# Altium footprint library LIB.PcbLib: 13 footprints
Each footprint in its own frame and in the unit in brackets; x right, y up, seen from the top. Pads: shape width x height; smd on the part's side, far side on the other; paste and mask are expansions set on the pad; w line width, h text height; cw(c..) or ccw(c..) is an arc to the next point about the centre after c.
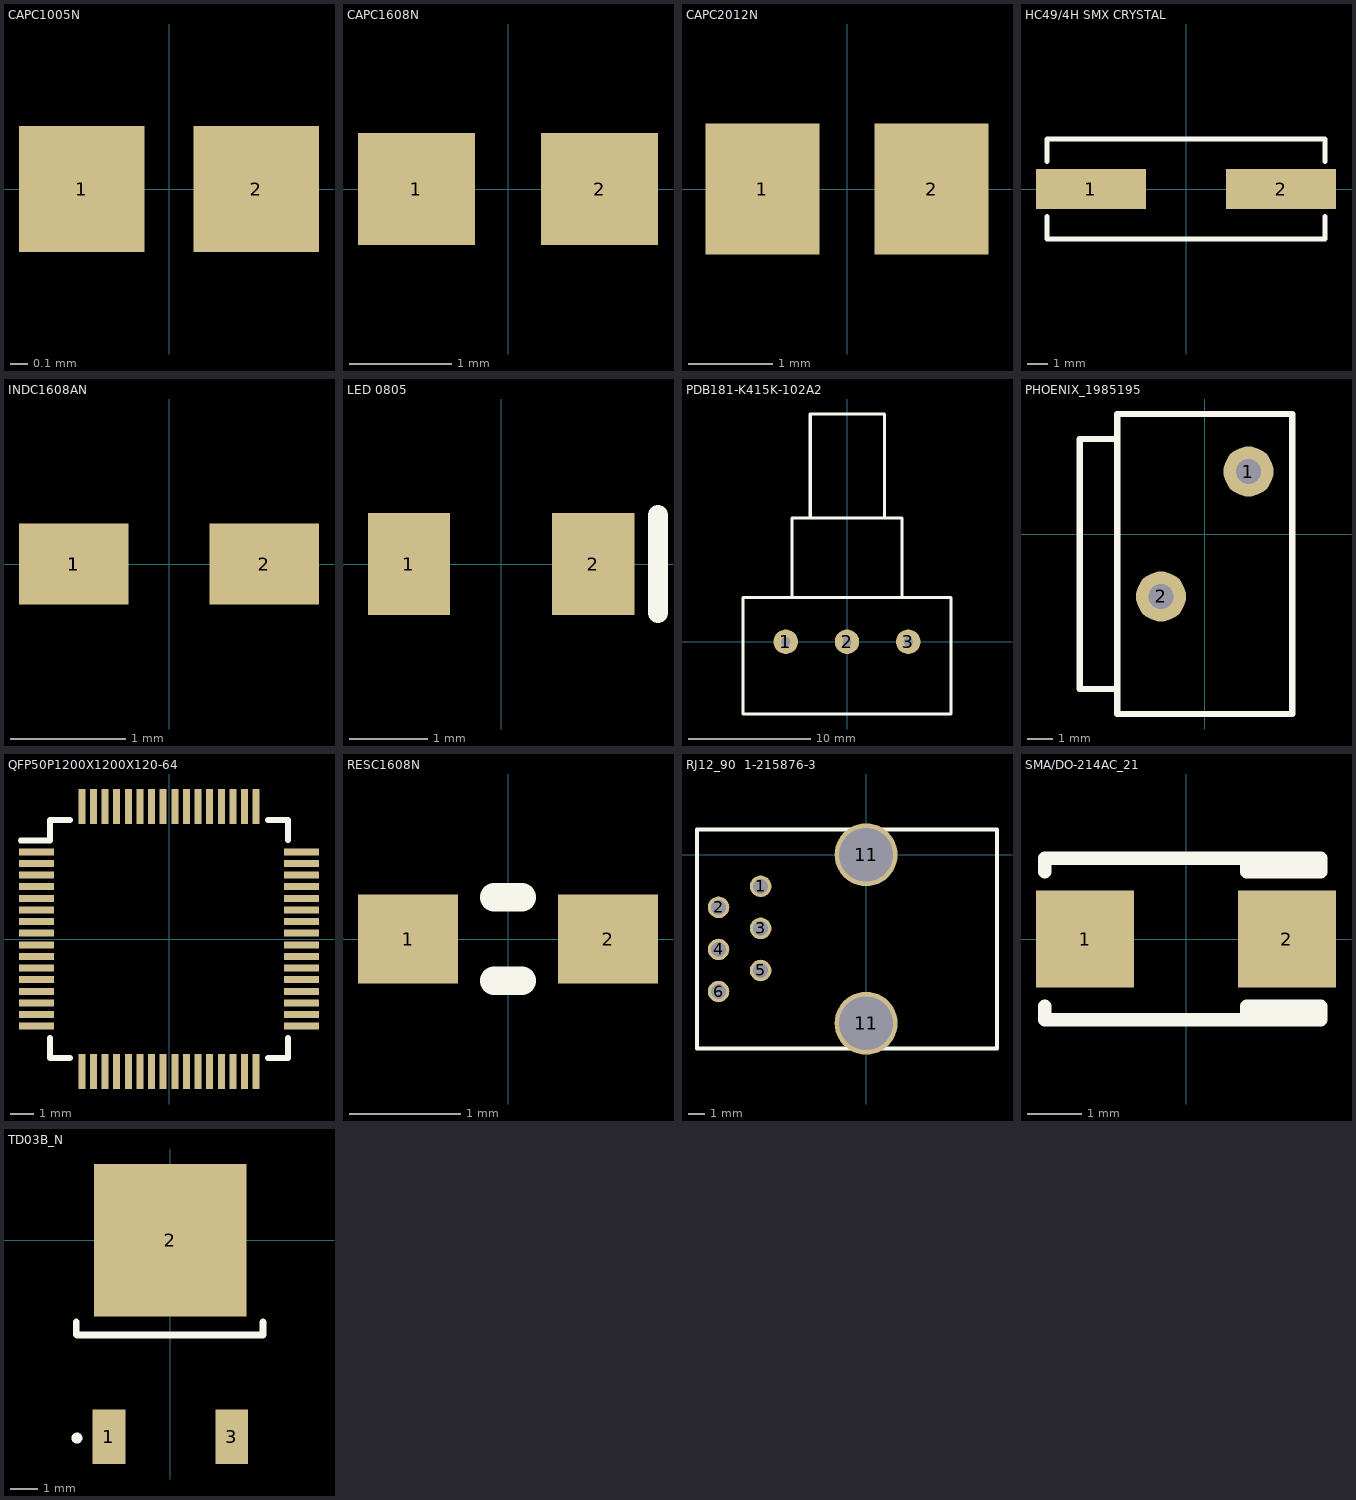
[diagram p0: the footprints below, top view; thin cyan lines are the x and y axes]

## CAPC1005N [mm]
pads (2):
  rect 0.72x0.72 smd: 1(-0.5,0) 2(0.5,0)

## CAPC1608N [mm]
pads (2):
  rect 1.15x1.1 smd: 1(-0.9,0) 2(0.9,0)

## CAPC2012N [mm]
pads (2):
  rect 1.35x1.55 smd: 1(-1,0) 2(1,0)

## HC49/4H SMX CRYSTAL [mm]
pads (2):
  rect 5.5x2 smd: 1(-4.75,0) 2(4.75,0)
Top Overlay:
  lines w0.254: -6.95,-1.375 -6.95,-2.5 6.95,-2.5 6.95,-1.375 ; -6.95,1.375 -6.95,2.5 6.95,2.5 6.95,1.375

## INDC1608AN [mm]
pads (3):
  rect 0.95x0.7 smd: 1(-0.825,0) 1(-0.825,0) 2(0.825,0)

## LED 0805 [mm]
pads (2):
  rect 1.05x1.3 smd: 1(-1.175,0) 2(1.175,0)
Top Overlay:
  lines w0.254: 2,-0.625 2,0.625

## PDB181-K415K-102A2 [mm]
pads (3):
  round 2 hole 0.762: 1(-5,0) 2(0,0) 3(5,0)
Top Overlay:
  lines w0.254: -4.5,3.6 -4.5,10.1 4.5,10.1 4.5,3.6 ; -3,10.1 -3,18.6 3.05,18.6 ; 3.075,10.1 3.075,18.6 ; -8.5,-5.9 -8.5,3.6 8.5,3.6 8.5,-5.9 -8.5,-5.9

## PHOENIX_1985195 [mm]
pads (2):
  round 2 hole 1: 1(1.75,2.5) 2(-1.75,-2.5)
Top Overlay:
  lines w0.254: -3.5,-6.2 -5,-6.2 -5,3.8 -3.5,3.8 ; -3.5,-7.2 3.5,-7.2 3.5,4.8 -3.5,4.8 -3.5,-7.2

## QFP50P1200X1200X120-64 [mm]
pads (64):
  rect 1.5x0.3 smd: 1(-5.7,3.75) 2(-5.7,3.25) 3(-5.7,2.75) 4(-5.7,2.25) 5(-5.7,1.75) 6(-5.7,1.25) 7(-5.7,0.75) 8(-5.7,0.25) 9(-5.7,-0.25) 10(-5.7,-0.75) 11(-5.7,-1.25) 12(-5.7,-1.75) 13(-5.7,-2.25) 14(-5.7,-2.75) 15(-5.7,-3.25) 16(-5.7,-3.75) 33(5.7,-3.75) 34(5.7,-3.25) 35(5.7,-2.75) 36(5.7,-2.25) 37(5.7,-1.75) 38(5.7,-1.25) 39(5.7,-0.75) 40(5.7,-0.25) 41(5.7,0.25) 42(5.7,0.75) 43(5.7,1.25) 44(5.7,1.75) 45(5.7,2.25) 46(5.7,2.75) 47(5.7,3.25) 48(5.7,3.75)
  rect 0.3x1.5 smd: 17(-3.75,-5.7) 18(-3.25,-5.7) 19(-2.75,-5.7) 20(-2.25,-5.7) 21(-1.75,-5.7) 22(-1.25,-5.7) 23(-0.75,-5.7) 24(-0.25,-5.7) 25(0.25,-5.7) 26(0.75,-5.7) 27(1.25,-5.7) 28(1.75,-5.7) 29(2.25,-5.7) 30(2.75,-5.7) 31(3.25,-5.7) 32(3.75,-5.7) 49(3.75,5.7) 50(3.25,5.7) 51(2.75,5.7) 52(2.25,5.7) 53(1.75,5.7) 54(1.25,5.7) 55(0.75,5.7) 56(0.25,5.7) 57(-0.25,5.7) 58(-0.75,5.7) 59(-1.25,5.7) 60(-1.75,5.7) 61(-2.25,5.7) 62(-2.75,5.7) 63(-3.25,5.7) 64(-3.75,5.7)
Top Overlay:
  lines w0.254: -6.375,4.237 -5.125,4.237 -5.125,5.112 -4.25,5.112 ; -5.125,-4.25 -5.125,-5.125 -4.25,-5.125 ; 4.25,-5.125 5.125,-5.125 5.125,-4.25 ; 4.25,5.125 5.125,5.125 5.125,4.25

## RESC1608N [mm]
pads (2):
  rect 0.9x0.8 smd: 1(-0.9,0) 2(0.9,0)
Top Overlay:
  lines w0.254: -0.125,-0.375 0.125,-0.375 ; -0.125,0.375 0.125,0.375

## RJ12_90  1-215876-3 [mm]
pads (8):
  round 1.3 hole 0.9: 1(-6.36,-1.9) 2(-8.9,-3.17) 3(-6.36,-4.44) 4(-8.9,-5.71) 5(-6.36,-6.98) 6(-8.9,-8.25)
  round 3.8 hole 3.25: 11(0,-10.16) 11(0,0)
Top Overlay:
  lines w0.254: -10.2,-11.68 -10.2,1.52 7.9,1.52 7.9,-11.68 -10.2,-11.68

## SMA/DO-214AC_21 [mm]
pads (2):
  rect 1.82x1.8 smd: 1(-1.875,0) 2(1.875,0)
Top Overlay:
  lines w0.254: -2.625,-1.25 -2.625,-1.5 2.5,-1.5 2.5,-1.25 1.125,-1.25 1.125,-1.5 ; -2.625,1.25 -2.625,1.312 -2.625,1.438 -2.625,1.5 2.5,1.5 2.5,1.25 1.125,1.25 1.125,1.5

## TD03B_N [mm]
pads (3):
  rect 1.2x2 smd: 1(-2.25,-7.2) 3(2.25,-7.2)
  rect 5.6x5.6 smd: 2(0,0)
Top Overlay:
  circle w0.254: c-3.425,-7.25 r0.075
  lines w0.254: -3.45,-3 -3.45,-3.45 -3.425,-3.475 3.4,-3.475 3.4,-3